# EAGLE library part L717SDCH37POL2 (library L717SDCH37POL2)
Dsub, Stamped Signal 3A, Straight PCB Thru Hole, 37 Pin, Flash Gold, Bright Tin Shell+Grounding Dimples, 4-40 Rear Nut Height 5.9mm Source: Datasheet <https://cdn.amphenol-cs.com/media/wysiwyg/files/drawing/l717sdxhxxpol2.pdf>
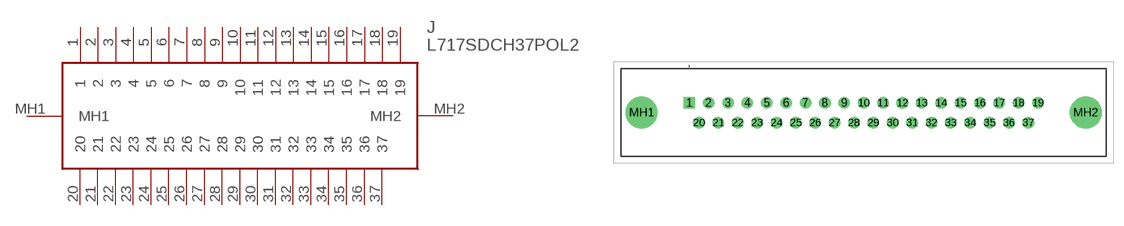
[diagram p0: symbol with the pads of L717SDCH37POL2; footprint L717SDCH37POL2]

Designator prefix J

## L717SDCH37POL2 (Description: Dsub, Stamped Signal 3A, Straight PCB Thru Hole, 37 Pin, Flash Gold, Bright Tin Shell+Grounding Dimples, 4-40 Rear Nut Height 5.9mm; Height: 12.5mm; Manufacturer_Name: Amphenol Communications Solutions; Manufacturer_Part_Number: L717SDCH37POL2)  [L717SDCH37POL2]
1  1
2  2
3  3
4  4
5  5
6  6
7  7
8  8
9  9
10  10
11  11
12  12
13  13
14  14
15  15
16  16
17  17
18  18
19  19
20  20
21  21
22  22
23  23
24  24
25  25
26  26
27  27
28  28
29  29
30  30
31  31
32  32
33  33
34  34
35  35
36  36
37  37
MH1  MH1
MH2  MH2

## Footprint L717SDCH37POL2 (pad centres in mm)
L717SDCH37POL2-2
drill 1.1 pad 1.65 square: 1 0,0
drill 1.1 pad 1.65: 2 2.77,0; 3 5.54,0; 4 8.31,0; 5 11.08,0; 6 13.85,0; 7 16.62,0; 8 19.39,0; 9 22.16,0; 10 24.93,0; 11 27.7,0; 12 30.47,0; 13 33.24,0; 14 36.01,0; 15 38.78,0; 16 41.55,0; 17 44.32,0; 18 47.09,0; 19 49.86,0; 20 1.385,-2.84; 21 4.155,-2.84; 22 6.925,-2.84; 23 9.695,-2.84; 24 12.465,-2.84; 25 15.235,-2.84; 26 18.005,-2.84; 27 20.775,-2.84; 28 23.545,-2.84; 29 26.315,-2.84; 30 29.085,-2.84; 31 31.855,-2.84; 32 34.625,-2.84; 33 37.395,-2.84; 34 40.165,-2.84; 35 42.935,-2.84; 36 45.705,-2.84; 37 48.475,-2.84
drill 3.05 pad 4.575: MH1 -6.82,-1.42; MH2 56.68,-1.42